# Altium footprint library ACJS-MHDR.PcbLib: 1 footprints
Each footprint in its own frame and in the unit in brackets; x right, y up, seen from the top. Pads: shape width x height; smd on the part's side, far side on the other; paste and mask are expansions set on the pad; w line width, h text height; cw(c..) or ccw(c..) is an arc to the next point about the centre after c.
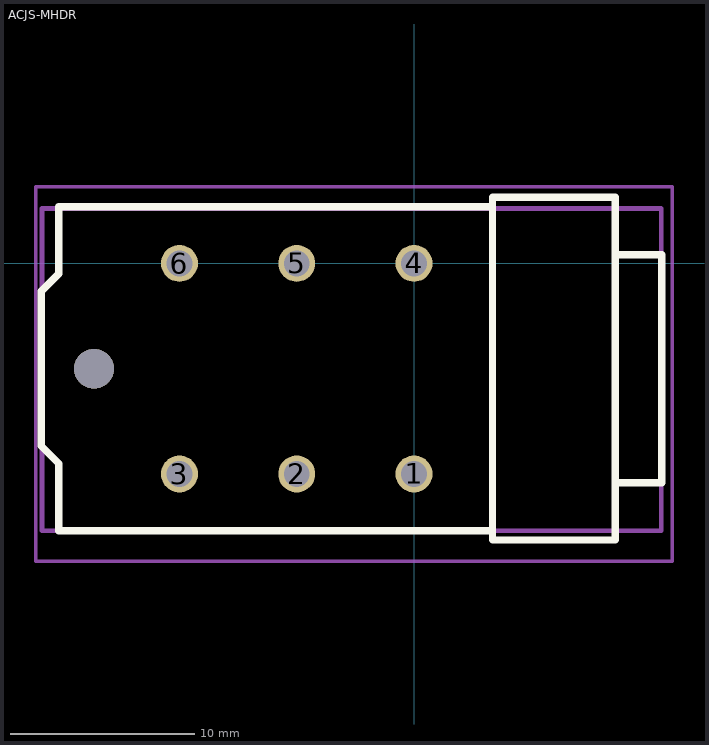
[diagram p0: the footprint, top view; thin cyan lines are the x and y axes]

## ACJS-MHDR [mm] "6.35mm Jack Audio Connector"
pads (6):
  round 2 hole 1.4 mask+0.05: 1(0,-11.4) 2(-6.35,-11.4) 3(-12.7,-11.4) 4(0,0) 5(-6.35,0) 6(-12.7,0)
via -17.33,-5.7 diameter 2.15 hole 2.15
Top Overlay:
  lines w0.4: 4.25,-14.475 -19.239,-14.475 -19.239,-10.834 -20.189,-9.884 -20.189,-1.516 -19.239,-0.566 -19.239,3.075 4.25,3.075 ; 4.25,-14.475 4.25,-14.975 10.886,-14.975 10.886,-11.875 ; 4.25,-14.475 4.25,3.075 ; 4.25,3.075 4.25,3.575 10.886,3.575 10.886,0.475 ; 10.886,-11.875 13.411,-11.875 13.411,0.475 10.886,0.475 ; 10.886,-11.875 10.886,0.475
Top Assembly:
  lines w0.254: -20.139,-14.475 13.386,-14.475 13.386,2.975 -20.139,2.975 -20.139,-14.475
Top Courtyard:
  lines w0.2: -20.475,-16.129 13.975,-16.129 13.975,4.15 -20.475,4.15 -20.475,-16.129
3D body "ACJS-MHDR.stp": height 15.32, standoff -4.35, extent -20.125,-14.35 13.375,3